# EAGLE library part SPRING-TERMINAL_8/PTSA-ZZ_2.5MM (library headers)
Spring Terminal Block Digi-Key Part Number 277-1628-ND
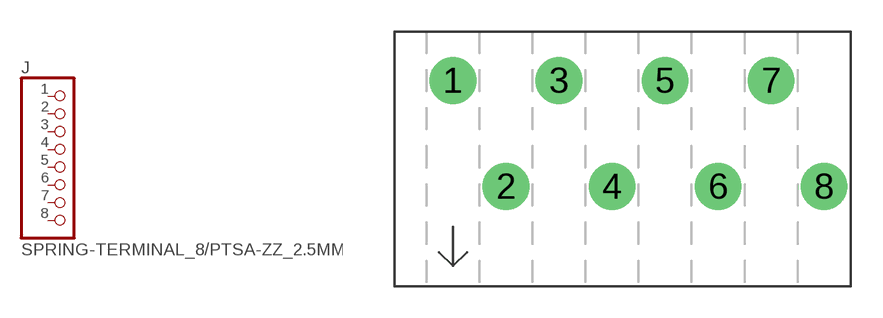
[diagram p2: symbol with the pads of 1X8/PTSA-ZZ_2.5MM; footprint 1X8/PTSA-ZZ_2.5MM]

Designator prefix J

## SPRING-TERMINAL_8/PTSA-ZZ_2.5MM (DIGIKEY: 277-1800-ND)  [1X8/PTSA-ZZ_2.5MM]
1  1  pas
2  2  pas
3  3  pas
4  4  pas
5  5  pas
6  6  pas
7  7  pas
8  8  pas

## Footprint 1X8/PTSA-ZZ_2.5MM (pad centres in mm)
drill 1 pad 2.2: 1 -8.75,2.5; 2 -6.25,-2.5; 3 -3.75,2.5; 4 -1.25,-2.5; 5 1.25,2.5; 6 3.75,-2.5; 7 6.25,2.5; 8 8.75,-2.5